# EAGLE library part WIFI-MODULE (library phone-finder)
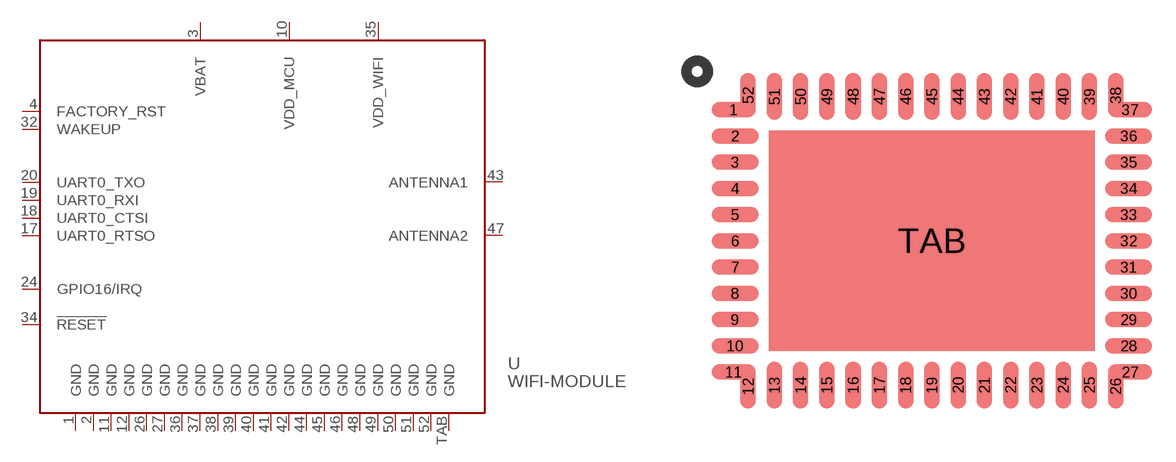
[diagram p2: symbol with the pads of WIFI_MODULE; footprint WIFI_MODULE]

Designator prefix U

## WIFI-MODULESMT  [WIFI_MODULE]
1  GND  pwr
2  GND  pwr
3  VBAT  pwr
4  FACTORY_RST  in
10  VDD_MCU  pwr
11  GND  pwr
12  GND  pwr
17  UART0_RTSO  out
18  UART0_CTSI  in
19  UART0_RXI  in
20  UART0_TXO  out
24  GPIO16/IRQ  out
26  GND  pwr
27  GND  pwr
32  WAKEUP  in
34  !RESET  in
35  VDD_WIFI  pwr
36  GND  pwr
37  GND  pwr
38  GND  pwr
39  GND  pwr
40  GND  pwr
41  GND  pwr
42  GND  pwr
43  ANTENNA1  pas
44  GND  pwr
45  GND  pwr
46  GND  pwr
47  ANTENNA2  pas
48  GND  pwr
49  GND  pwr
50  GND  pwr
51  GND  pwr
52  GND  pwr
TAB  GND  pwr

## Footprint WIFI_MODULE (pad centres in mm)
smd 2.159 x 0.762: 1 0.572,13.97; 11 0.572,1.27; 27 19.748,1.27; 37 19.748,13.97
smd 2.286 x 0.762: 2 0.635,12.7; 3 0.635,11.43; 4 0.635,10.16; 5 0.635,8.89; 6 0.635,7.62; 7 0.635,6.35; 8 0.635,5.08; 9 0.635,3.81; 10 0.635,2.54; 28 19.685,2.54; 29 19.685,3.81; 30 19.685,5.08; 31 19.685,6.35; 32 19.685,7.62; 33 19.685,8.89; 34 19.685,10.16; 35 19.685,11.43; 36 19.685,12.7
smd 0.762 x 2.159: 12 1.27,0.572; 26 19.05,0.572; 38 19.05,14.668; 52 1.27,14.668
smd 0.762 x 2.286: 13 2.54,0.635; 14 3.81,0.635; 15 5.08,0.635; 16 6.35,0.635; 17 7.62,0.635; 18 8.89,0.635; 19 10.16,0.635; 20 11.43,0.635; 21 12.7,0.635; 22 13.97,0.635; 23 15.24,0.635; 24 16.51,0.635; 25 17.78,0.635; 39 17.78,14.605; 40 16.51,14.605; 41 15.24,14.605; 42 13.97,14.605; 43 12.7,14.605; 44 11.43,14.605; 45 10.16,14.605; 46 8.89,14.605; 47 7.62,14.605; 48 6.35,14.605; 49 5.08,14.605; 50 3.81,14.605; 51 2.54,14.605
smd 15.748 x 10.668: TAB 10.16,7.62